# Altium integrated library Q13FC13500004.IntLib: 1 symbol
Pins are listed as number, name and electrical type; pins without a type are passive.

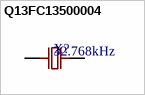
[diagram p0: symbol Q13FC13500004]

## Q13FC13500004
designator X?  value 32.768kHz  (hidden comment: Q13FC13500004)
Crystals. -40C~+85C 12.5pF 32.768kHz 70kohm Crystal Oscillator +/-20ppm SMD3215-2P Crystals ROHS; Manufacturer: Seiko Epson; Component Type: Crystal Oscillators; Design Item ID: Q13FC13500004; JLCPCB Part #: C32346; Manufacturer Part Number: Q13FC13500004
footprint Q13FC13500004 (FC-135R_L3.2-W1.5)
pins: 1, 2